# Altium footprint library lipo battery.PcbLib: 1 footprints
Each footprint in its own frame and in the unit in brackets; x right, y up, seen from the top. Pads: shape width x height; smd on the part's side, far side on the other; paste and mask are expansions set on the pad; w line width, h text height; cw(c..) or ccw(c..) is an arc to the next point about the centre after c.
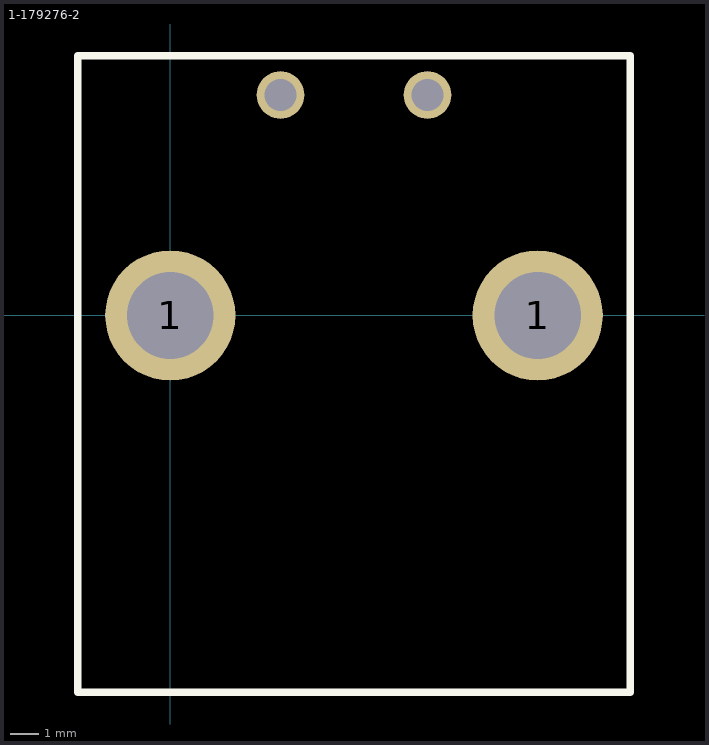
[diagram p0: the footprint, top view; thin cyan lines are the x and y axes]

## 1-179276-2 [mm] "2_POS_HDR_X19MM_Y22MM"
height 9.347
pads (4):
  round 4.5 hole 3: 1(0,0) 1(12.7,0)
  round 1.65 hole 1.1: ""(3.81,7.62) ""(8.89,7.62)
Top Overlay:
  lines w0.254: -3.2,-13.025 15.9,-13.025 15.9,8.975 -3.2,8.975 -3.2,-1.925 -3.2,-13.025
  text ".Designator" at -1.096,10.237 h1.52
3D body "c-0179276-12-b-3d.stp": height 10.86, standoff -3.79, extent -3.19,-13.675 15.89,8.425